# Altium schematic symbol library 3.5mm耳机接口.SCHLIB: 1 symbol
Pins are listed as number, name and electrical type; pins without a type are passive.

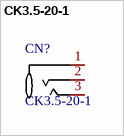
[diagram p0: symbol CK3.5-20-1]

## CK3.5-20-1
designator CN?
Manufacturer: JINJIA(金佳); Add into BOM: yes; Connector Type: 3.5mm耳机座; Current Rating (Max): 500mA; Voltage Rating (Max): 30V; Symbol: CK3.5-20-1; Device: CK3.5-20-1; LCSC Part Name: 3.5mm耳机座; Supplier Part: C718046; Manufacturer Part: CK3.5-20-1; Supplier Footprint: SMD; JLCPCB Part Class: 扩展库; Datasheet: https://atta.szlcsc.com/upload/public/pdf/source/20200805/C718046_04C469F891EDA4D53ADEB63B7833A696.pdf; Supplier: LCSC; Convert to PCB: yes; Operating Temperature Range: -25℃~+70℃; Name: CK3.5-20-1
footprint AUDIO-SMD_CK3.5-20-1
pins: 1, 2, 3